# Altium schematic symbol library 28_Pins_Project_V1I1.SchLib: 39 symbols
Pins are listed as number, name and electrical type; pins without a type are passive.

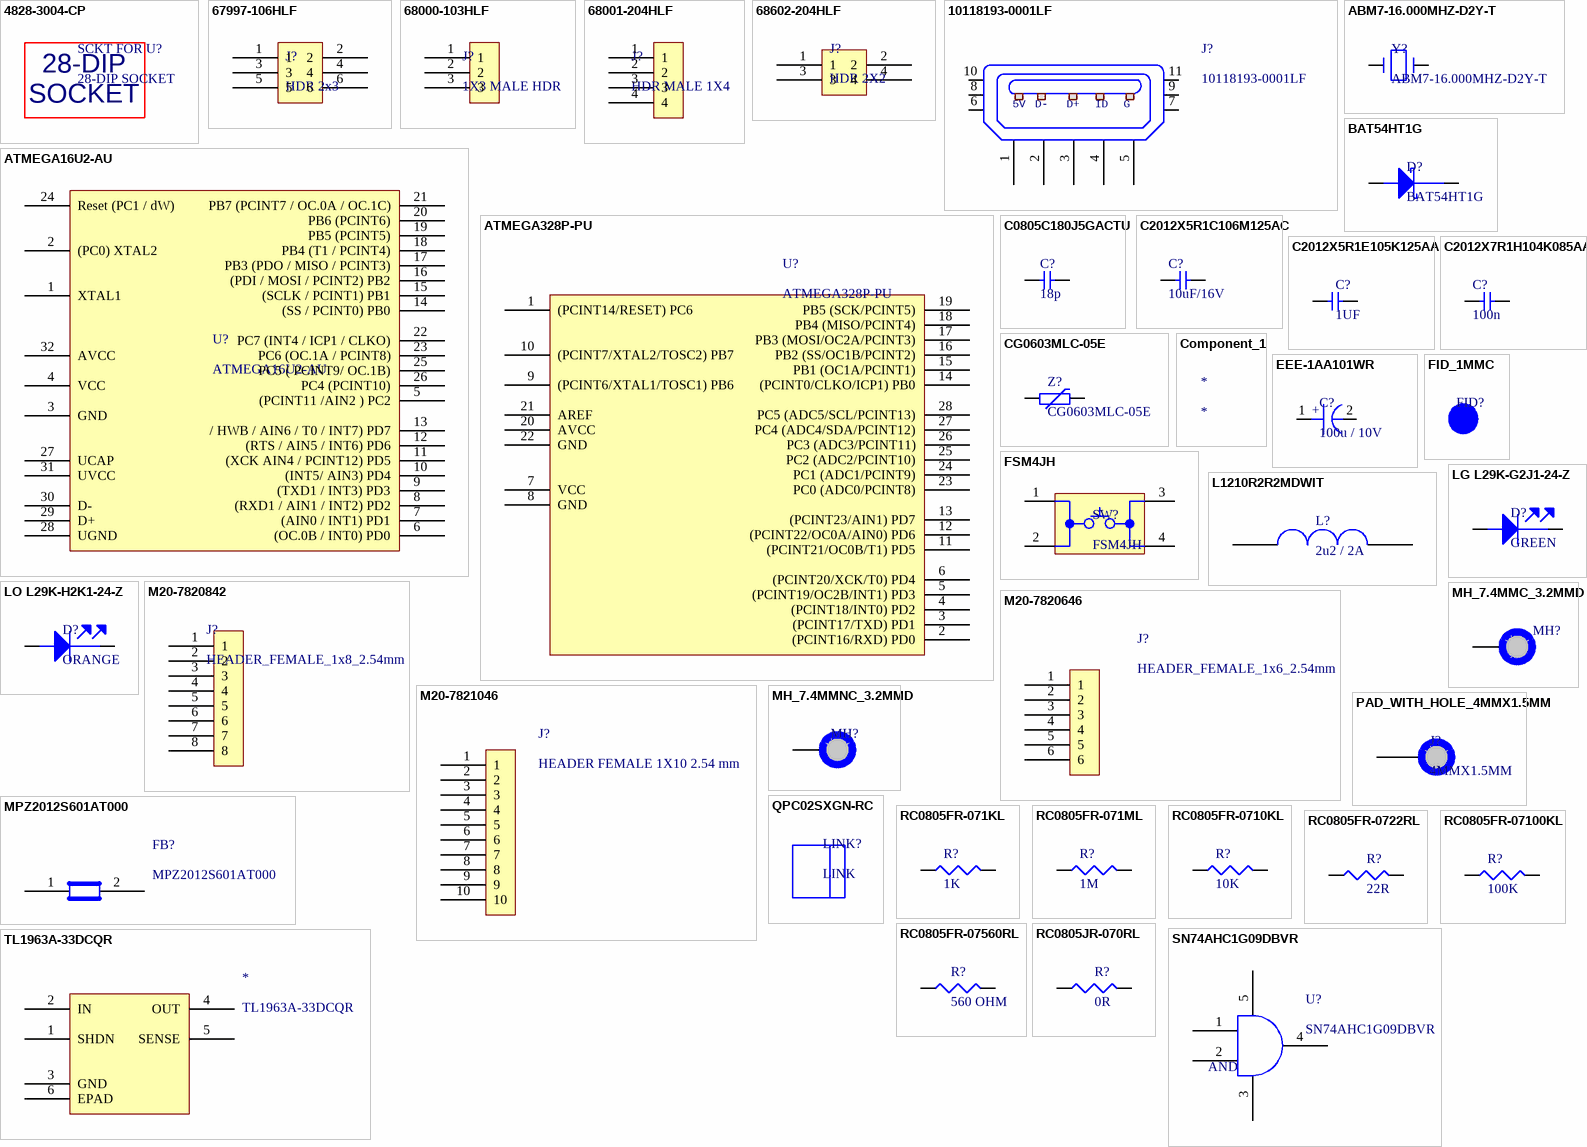
[diagram p0: symbols 4828-3004-CP to TL1963A-33DCQR]

## 4828-3004-CP
designator SCKT FOR U?, comment 28-DIP SOCKET
CONN IC  DIP SOCKET 28POS TIN; Manufacturer: 3M; Manufacturer Part Number: 4828-3004-CP; Supplier 1: Allied; RoHS: No; Stock 1: 1042; Pricing 1: 1=0.5927, 50=0.5711, 100=0.5388, 250=0.5065, 500=0.4634, 1000=0.4095 (USD); ComponentLink1URL: https://www.alliedelec.com/m/d/c6a66f3a2a97a8d8cac78de04d6de5d3.pdf; ComponentLink1Description: https://www.alliedelec.com/m/d/c6a66f3a2a97a8d8cac78de04d6de5d3.pdf; ComponentLink2URL: https://www.alliedelec.com/3m-4828-3004-cp/70237692/; ComponentLink2Description: https://www.alliedelec.com/3m-4828-3004-cp/70237692/; Supplier Part Number 1: 70237692
footprint 28_DIP_7.62MM_SOCKET
text: 28-DIP; SOCKET

## 67997-106HLF
designator J?, comment HDR 2x3
CONN HEADER 6POS .100 STR 30AU; Manufacturer: Amphenol ICC; Manufacturer Part Number: 67997-106HLF; Supplier 1: Allied; RoHS: No; Stock 1: 0; Pricing 1: 800=1.3500 (USD); ComponentLink1URL: https://www.alliedelec.com/m/d/75ed0fe4ed9dd5bdc045f1ca7ef961cc.pdf; ComponentLink1Description: https://www.alliedelec.com/m/d/75ed0fe4ed9dd5bdc045f1ca7ef961cc.pdf; ComponentLink2URL: https://www.alliedelec.com/amphenolicc-67997-106hlf/70302482/; ComponentLink2Description: https://www.alliedelec.com/amphenolicc-67997-106hlf/70302482/; Supplier Part Number 1: 70302482
footprint HDR_2X3_2.54mm
pins: 1, 2, 3, 4, 5, 6

## 68000-103HLF
designator J?, comment 1X3 MALE HDR
HDR MALE 1X3 2.54 MM; Manufacturer: Amphenol ICC; Manufacturer Part Number: 68000-103HLF; Supplier 1: Allied; RoHS: No; Stock 1: 1189; Pricing 1: 1=0.2145, 25=0.2059, 100=0.1887, 250=0.1630, 500=0.1544 (USD); ComponentLink1URL: https://www.alliedelec.com/m/d/db594e6708c9daaed0ce5cfb84ef346f.pdf; ComponentLink1Description: https://www.alliedelec.com/m/d/db594e6708c9daaed0ce5cfb84ef346f.pdf; ComponentLink2URL: https://www.alliedelec.com/amphenolicc-68000-103hlf/70236888/; ComponentLink2Description: https://www.alliedelec.com/amphenolicc-68000-103hlf/70236888/; Supplier Part Number 1: 70236888
footprint HEADER_MALE_1X3_2.54mm
pins: 1, 2, 3

## 68001-204HLF
designator J?, comment HDR MALE 1X4
HDR MALE 1X4 2.54MM; Manufacturer: Amphenol ICC; Manufacturer Part Number: 68001-204HLF; Supplier 1: Allied; RoHS: No; Stock 1: 0; Pricing 1: 12000=0.1787 (USD); ComponentLink1URL: https://www.alliedelec.com/m/d/f5d2b9d9c64cb957e21544e1dea10e7d.pdf; ComponentLink1Description: https://www.alliedelec.com/m/d/f5d2b9d9c64cb957e21544e1dea10e7d.pdf; ComponentLink2URL: https://www.alliedelec.com/amphenolicc-68001-204hlf/70302499/; ComponentLink2Description: https://www.alliedelec.com/amphenolicc-68001-204hlf/70302499/; Supplier Part Number 1: 70302499
footprint HEADER_MALE_1X4_2.54mm
pins: 1, 2, 3, 4

## 68602-204HLF
designator J?, comment HDR 2X2
CONN HEADER 4POS .100 STR 30AU; Manufacturer: Mouser Electronics; Manufacturer Part Number: 68602-204HLF; Get more results: Please configure for MyMouser login credentials; Product Status: New Product; Supplier 1: Mouser; RoHS: RoHS Compliant; Category: Daily Limit Reached; Stock 1: 0; Pricing 1: 1=0.00 (USD); Create Account URL: https://www.mouser.com/MyMouser/CreateAccount.aspx; Login URL: https://www.mouser.com/MyMouser/MouserLogin.aspx; Minimum Order Quantity: 1; Reeling: False; Supplier Part Number 1: 68602-204HLF
footprint HDR_2X2_2.54mm
pins: 1, 2, 3, 4

## 10118193-0001LF
designator J?
CONN USB MICRO B RECPT SMT R/A; Manufacturer: Amphenol ICC; Supplier 1: Allied; Manufacturer Part Number: 10118193-0001LF; RoHS: No; Stock 1: 6740; Pricing 1: 1=0.2919, 25=0.2747, 100=0.2661, 250=0.2318, 500=0.2276 (USD); ComponentLink1URL: https://www.alliedelec.com/m/d/e03afc8e486ea55a2b0205fb8203b916.pdf; ComponentLink1Description: https://www.alliedelec.com/m/d/e03afc8e486ea55a2b0205fb8203b916.pdf; ComponentLink2URL: https://www.alliedelec.com/amphenolicc-10118193-0001lf/70236827/; ComponentLink2Description: https://www.alliedelec.com/amphenolicc-10118193-0001lf/70236827/; Supplier Part Number 1: 70236827
footprint 10118193
pins: 1, 2, 3, 4, 5, 6, 7, 8, 9, 10, 11
text: 5V; D-; D+; ID; G

## ABM7-16.000MHZ-D2Y-T
designator Y?
CRY OSC 16MHZ 16pF; Manufacturer: Abracon; Supplier 1: Allied; Manufacturer Part Number: ABM7-16.000MHZ-D2Y-T; RoHS: No; Stock 1: 0; Pricing 1: 1000=0.5800 (USD); ComponentLink1URL: https://www.alliedelec.com; ComponentLink1Description: https://www.alliedelec.com; ComponentLink2URL: https://www.alliedelec.com/abracon-abm7-16-000mhz-d2y-t/71528095/; ComponentLink2Description: https://www.alliedelec.com/abracon-abm7-16-000mhz-d2y-t/71528095/; Supplier Part Number 1: 71528095
footprint ABM_v1_1_BIG
pins: 1, 2

## ATMEGA16U2-AU
designator U?
Manufacturer: Mouser Electronics; Get more results: Please configure for MyMouser login credentials; Product Status: New Product; Supplier 1: Mouser; Manufacturer Part Number: ATMEGA16U2-AU; RoHS: RoHS Compliant; Category: Daily Limit Reached; Stock 1: 0; Pricing 1: 1=0.00 (USD); Create Account URL: https://www.mouser.com/MyMouser/CreateAccount.aspx; Login URL: https://www.mouser.com/MyMouser/MouserLogin.aspx; Minimum Order Quantity: 1; Reeling: False; Supplier Part Number 1: ATMEGA16U2-AU
footprint TQFP32
pins: 1 XTAL1, 2 (PC0) XTAL2, 3 GND, 4 VCC, 5 (PCINT11 /AIN2 ) PC2, 6 (OC.0B / INT0) PD0, 7 (AIN0 / INT1) PD1, 8 (RXD1 / AIN1 / INT2) PD2, 9 (TXD1 / INT3) PD3, 10 (INT5/ AIN3) PD4, 11 (XCK AIN4 / PCINT12) PD5, 12 (RTS / AIN5 / INT6) PD6, 13 / HWB / AIN6 / T0 / INT7) PD7, 14 (SS / PCINT0) PB0, 15 (SCLK / PCINT1) PB1, 16 (PDI / MOSI / PCINT2) PB2, 17 PB3 (PDO / MISO / PCINT3), 18 PB4 (T1 / PCINT4), 19 PB5 (PCINT5), 20 PB6 (PCINT6), 21 PB7 (PCINT7 / OC.0A / OC.1C), 22 PC7 (INT4 / ICP1 / CLKO), 23 PC6 (OC.1A / PCINT8), 24 Reset (PC1 / dW), 25 PC5 ( PCINT9/ OC.1B), 26 PC4 (PCINT10), 27 UCAP, 28 UGND, 29 D+, 30 D-, 31 UVCC, 32 AVCC

## ATMEGA328P-PU
designator U?
ATMEGA328P-PU; 8 bit Microcontroller AVR 20MHz 1; 32kb Flash; 2kb RAM; I2C SPI 2; Manufacturer: Microchip Technology Inc.; Supplier 1: Allied; RoHS: No; Stock 1: 0; Pricing 1: 1=5.1200, 5=4.6100, 10=4.1800, 25=3.8300, 100=3.5500 (USD); ComponentLink1URL: https://www.alliedelec.com/m/d/768ce6a229d36838fb8bd4dcb29bd26e.pdf; ComponentLink1Description: https://www.alliedelec.com/m/d/768ce6a229d36838fb8bd4dcb29bd26e.pdf; ComponentLink2URL: https://www.alliedelec.com/microchiptechnologyinc-atmega328p-pu/70332157/; ComponentLink2Description: https://www.alliedelec.com/microchiptechnologyinc-atmega328p-pu/70332157/; Supplier Part Number 1: 70332157; Manufacturer Part Number: ATMEGA328P-PU
footprint 28_DIP_7.62mm
pins: 1 (PCINT14/RESET) PC6, 2 (PCINT16/RXD) PD0, 3 (PCINT17/TXD) PD1, 4 (PCINT18/INT0) PD2, 5 (PCINT19/OC2B/INT1) PD3, 6 (PCINT20/XCK/T0) PD4, 7 VCC, 8 GND, 9 (PCINT6/XTAL1/TOSC1) PB6, 10 (PCINT7/XTAL2/TOSC2) PB7, 11 (PCINT21/OC0B/T1) PD5, 12 (PCINT22/OC0A/AIN0) PD6, 13 (PCINT23/AIN1) PD7, 14 (PCINT0/CLKO/ICP1) PB0, 15 PB1 (OC1A/PCINT1), 16 PB2 (SS/OC1B/PCINT2), 17 PB3 (MOSI/OC2A/PCINT3), 18 PB4 (MISO/PCINT4), 19 PB5 (SCK/PCINT5), 20 AVCC, 21 AREF, 22 GND, 23 PC0 (ADC0/PCINT8), 24 PC1 (ADC1/PCINT9), 25 PC2 (ADC2/PCINT10), 26 PC3 (ADC3/PCINT11), 27 PC4 (ADC4/SDA/PCINT12), 28 PC5 (ADC5/SCL/PCINT13)

## BAT54HT1G
designator D?
DIODE SCHOTTKY 30V 200MA SOD323; Manufacturer: ON Semiconductor; Supplier 1: Allied; Manufacturer Part Number: BAT54HT1G; RoHS: No; Stock 1: 1580; Pricing 1: 10=0.0946, 100=0.0936, 250=0.0927 (USD); ComponentLink1URL: https://www.alliedelec.com/m/d/32ed7fc37a0b4f97ae8b34bd526f7e4f.pdf; ComponentLink1Description: https://www.alliedelec.com/m/d/32ed7fc37a0b4f97ae8b34bd526f7e4f.pdf; ComponentLink2URL: https://www.alliedelec.com/onsemiconductor-bat54ht1g/70099482/; ComponentLink2Description: https://www.alliedelec.com/onsemiconductor-bat54ht1g/70099482/; Supplier Part Number 1: 70099482
footprint SOD323
pins: 1 Cathode, 2 Anode

## C0805C180J5GACTU
designator C?, comment 18p
CAP CER 18PF 50V NP0 0805; Manufacturer: KEMET; Manufacturer Part Number: C0805C180J5GACTU; Supplier 1: Allied; RoHS: No; Stock 1: 9520; Pricing 1: 10=0.0200 (USD); ComponentLink1URL: https://www.alliedelec.com/m/d/50b0791ef9828d4ace226f67180d8c1a.pdf; ComponentLink1Description: https://www.alliedelec.com/m/d/50b0791ef9828d4ace226f67180d8c1a.pdf; ComponentLink2URL: https://www.alliedelec.com/kemet-c0805c180j5gactu/70095583/; ComponentLink2Description: https://www.alliedelec.com/kemet-c0805c180j5gactu/70095583/; Supplier Part Number 1: 70095583
footprint C0805
pins: 1, 2

## C2012X5R1C106M125AC
designator C?, comment 10uF/16V
CAP CER 10UF 16V X5R 0805; Manufacturer: Mouser Electronics; Manufacturer Part Number: C2012X5R1C106M125AC; Get more results: Please configure for MyMouser login credentials; Product Status: New Product; Supplier 1: Mouser; RoHS: RoHS Compliant; Category: Daily Limit Reached; Stock 1: 0; Pricing 1: 1=0.00 (USD); Create Account URL: https://www.mouser.com/MyMouser/CreateAccount.aspx; Login URL: https://www.mouser.com/MyMouser/MouserLogin.aspx; Minimum Order Quantity: 1; Reeling: False; Supplier Part Number 1: C2012X5R1C106M125AC
footprint C0805_v2
pins: 1, 2

## C2012X5R1E105K125AA
designator C?, comment 1UF
CAP CER 10UF 16V X5R 0805; Manufacturer: Mouser Electronics; Manufacturer Part Number: C2012X5R1E105K125AA; Get more results: Please configure for MyMouser login credentials; Product Status: New Product; Supplier 1: Mouser; RoHS: RoHS Compliant; Category: Daily Limit Reached; Stock 1: 0; Pricing 1: 1=0.00 (USD); Create Account URL: https://www.mouser.com/MyMouser/CreateAccount.aspx; Login URL: https://www.mouser.com/MyMouser/MouserLogin.aspx; Minimum Order Quantity: 1; Reeling: False; Supplier Part Number 1: Anonymous Daily Limit Reached
footprint C0805
pins: 1, 2

## C2012X7R1H104K085AA
designator C?, comment 100n
CAP CER 0.1UF 50V X7R 0805; Manufacturer: Mouser Electronics; Manufacturer Part Number: C2012X7R1H104K085AA; Get more results: Please configure for MyMouser login credentials; Product Status: New Product; Supplier 1: Mouser; RoHS: RoHS Compliant; Category: Daily Limit Reached; Stock 1: 0; Pricing 1: 1=0.00 (USD); Create Account URL: https://www.mouser.com/MyMouser/CreateAccount.aspx; Login URL: https://www.mouser.com/MyMouser/MouserLogin.aspx; Minimum Order Quantity: 1; Reeling: False; Supplier Part Number 1: C2012X7R1H104K085AA
footprint C0805
pins: 1, 2

## CG0603MLC-05E
designator Z?
VARISTOR 0603; Manufacturer: Bourns; Supplier 1: Allied; Manufacturer Part Number: CG0603MLC-05E; RoHS: No; Stock 1: 7999; Pricing 1: 1=0.1100, 1250=0.1067, 2500=0.1012, 12500=0.0946, 25000=0.0869, 125000=0.0682 (USD); ComponentLink1URL: https://www.alliedelec.com/m/d/c74d21cd372fe06fa9c5b8b4ec8a7246.pdf; ComponentLink1Description: https://www.alliedelec.com/m/d/c74d21cd372fe06fa9c5b8b4ec8a7246.pdf; ComponentLink2URL: https://www.alliedelec.com/bourns-cg0603mlc-05e/70153503/; ComponentLink2Description: https://www.alliedelec.com/bourns-cg0603mlc-05e/70153503/; Supplier Part Number 1: 70153503
footprint R0603
pins: 1, 2

## Component_1
designator *

## EEE-1AA101WR
designator C?, comment 100u / 10V
CAP ALUM 100UF 20% 10V SMD; Manufacturer: Panasonic; Manufacturer Part Number: EEE-1AA101WR; Supplier 1: Allied; RoHS: No; Stock 1: 0; Pricing 1: 3000=0.1540, 6000=0.1514, 15000=0.1466, 30000=0.1400, 75000=0.1305, 150000=0.1202, 300000=0.1078 (USD); ComponentLink1URL: https://www.alliedelec.com/m/d/310b2cfd0553a89b5ffae819c6e32d0a.pdf; ComponentLink1Description: https://www.alliedelec.com/m/d/310b2cfd0553a89b5ffae819c6e32d0a.pdf; ComponentLink2URL: https://www.alliedelec.com/panasonic-eee-1aa101wr/70256240/; ComponentLink2Description: https://www.alliedelec.com/panasonic-eee-1aa101wr/70256240/; Supplier Part Number 1: 70256240
footprint C_ALU_C_SIZE
pins: 1, 2
text: +

## FID_1MMC
designator FID?, comment FID 1MM  (value not drawn)  (no BOM)
FIDUCIAL 40MIL DIAMETER,120 MIL MASK
footprint FID_40X120D

## FSM4JH
designator SW?
SWITCH; Manufacturer: TE Connectivity; Supplier 1: Allied; Manufacturer Part Number: FSM4JH; RoHS: No; Stock 1: 0; Pricing 1: 750=0.1046 (USD); ComponentLink1URL: https://www.alliedelec.com/m/d/eaa16fe89a3a8acf140f751379b52364.pdf; ComponentLink1Description: https://www.alliedelec.com/m/d/eaa16fe89a3a8acf140f751379b52364.pdf; ComponentLink2URL: https://www.alliedelec.com/te-connectivity-fsm4jh/70156212/; ComponentLink2Description: https://www.alliedelec.com/te-connectivity-fsm4jh/70156212/; Supplier Part Number 1: 70156212
footprint FSM4JH
pins: 1, 2, 3, 4

## L1210R2R2MDWIT
designator L?, comment 2u2 / 2A
FIXED IND 2.2UH 2A 80MOHM SMD; Manufacturer: Mouser Electronics; Manufacturer Part Number: L1210R2R2MDWIT; Get more results: Please configure for MyMouser login credentials; Product Status: New Product; Supplier 1: Mouser; RoHS: RoHS Compliant; Category: Daily Limit Reached; Stock 1: 0; Pricing 1: 1=0.00 (USD); Create Account URL: https://www.mouser.com/MyMouser/CreateAccount.aspx; Login URL: https://www.mouser.com/MyMouser/MouserLogin.aspx; Minimum Order Quantity: 1; Reeling: False; Supplier Part Number 1: Anonymous Daily Limit Reached
footprint C1210_IND
pins: 3, 4

## LG L29K-G2J1-24-Z
designator D?, comment GREEN
LED GREEN DIFFUSED 0603 SMD; Manufacturer: Osram Opto Semiconductors; Manufacturer Part Number: LG L29K-G2J1-24-Z; Supplier 1: Allied; RoHS: No; Stock 1: 32107; Pricing 1: 1=0.0505 (USD); ComponentLink1URL: https://www.alliedelec.com/m/d/d19aa5c5274efe304f2af274a0ac8334.pdf; ComponentLink1Description: https://www.alliedelec.com/m/d/d19aa5c5274efe304f2af274a0ac8334.pdf; ComponentLink2URL: https://www.alliedelec.com/osram-opto-semiconductors-lg-r971/70338572/; ComponentLink2Description: https://www.alliedelec.com/osram-opto-semiconductors-lg-r971/70338572/; Supplier Part Number 1: 70338572
footprint LED_0603
pins: 1 Cathode, 2 Anode

## LO L29K-H2K1-24-Z
designator D?, comment ORANGE
LED ORANGE DIFFUSED 0603 SMD; Manufacturer: Carling Technologies; Manufacturer Part Number: LO L29K-H2K1-24-Z; Supplier 1: Allied; RoHS: No; Stock 1: 0; Pricing 1: 25=3.0900 (USD); ComponentLink2URL: https://www.alliedelec.com/carling-technologies-lra911-cr-b-250n-hi-lo/71572183/; ComponentLink2Description: https://www.alliedelec.com/carling-technologies-lra911-cr-b-250n-hi-lo/71572183/; Supplier Part Number 1: 71572183
footprint LED_0603
pins: 1 Cathode, 2 Anode

## M20-7820646
designator J?, comment HEADER_FEMALE_1x6_2.54mm
HARWIN 2.54mm 6 Way 1 Row Straight PCBSocket Through Hole Socket Strip; Manufacturer: Mouser Electronics; Manufacturer Part Number: M20-7820646; Get more results: Please configure for MyMouser login credentials; Product Status: New Product; Supplier 1: Mouser; RoHS: RoHS Compliant; Category: Daily Limit Reached; Stock 1: 0; Pricing 1: 1=0.00 (USD); Create Account URL: https://www.mouser.com/MyMouser/CreateAccount.aspx; Login URL: https://www.mouser.com/MyMouser/MouserLogin.aspx; Minimum Order Quantity: 1; Reeling: False; Supplier Part Number 1: M20-7820646
footprint HEADER_FEMALE_1X6_2.54mm
pins: 1, 2, 3, 4, 5, 6

## M20-7820842
designator J?, comment HEADER_FEMALE_1x8_2.54mm
HARWIN 2.54mm 8 Way 1 Row Straight PCBSocket Through Hole Socket Strip; Manufacturer: Mouser Electronics; Manufacturer Part Number: M20-7820842; Get more results: Please configure for MyMouser login credentials; Product Status: New Product; Supplier 1: Mouser; RoHS: RoHS Compliant; Category: Daily Limit Reached; Stock 1: 0; Pricing 1: 1=0.00 (USD); Create Account URL: https://www.mouser.com/MyMouser/CreateAccount.aspx; Login URL: https://www.mouser.com/MyMouser/MouserLogin.aspx; Minimum Order Quantity: 1; Reeling: False; Supplier Part Number 1: M20-7820842
footprint HEADER_FEMALE_1X8_2.54mm
pins: 1, 2, 3, 4, 5, 6, 7, 8

## M20-7821046
designator J?, comment HEADER FEMALE 1X10 2.54 mm
HARWIN 2.54mm 10 Way 1 Row Straight PCBSocket Through Hole Socket Strip; Manufacturer Part Number: M20-7821046; Supplier 1: Allied; RoHS: No; Stock 1: 1500; Pricing 1: 1=1.9400 (USD); ComponentLink1URL: https://www.alliedelec.com/m/d/01be0311a6eb419d8543d8d568eced2e.pdf; ComponentLink1Description: https://www.alliedelec.com/m/d/01be0311a6eb419d8543d8d568eced2e.pdf; ComponentLink2URL: https://www.alliedelec.com/-m20-7821046/70323442/; ComponentLink2Description: https://www.alliedelec.com/-m20-7821046/70323442/; Supplier Part Number 1: 70323442
footprint HEADER_FEMALE_1X10_2.54mm
pins: 1, 2, 3, 4, 5, 6, 7, 8, 9, 10

## MH_7.4MMC_3.2MMD
designator MH?  (value not drawn)  (no BOM)
MOUNTING HOLE 7.4MM DIAMETER,3.2MM DRILL
footprint MH_7.4MMC_3.2MMD
pins: 1

## MH_7.4MMNC_3.2MMD
designator MH?  (value not drawn)  (no BOM)
HOLE 7.4MM DIAMETER (NON COPPER), 3.2MM DRILL NPTH
footprint MH_7.4MMNC_3.2MMD_NON_COPPER_NPTH
pins: 1

## MPZ2012S601AT000
designator FB?
FERRITE CHIP BEAD  600 OHM SMD; Manufacturer: Mouser Electronics; Get more results: Please configure for MyMouser login credentials; Product Status: New Product; Supplier 1: Mouser; Manufacturer Part Number: MPZ2012S601AT000; RoHS: RoHS Compliant; Category: Daily Limit Reached; Stock 1: 0; Pricing 1: 1=0.00 (USD); Create Account URL: https://www.mouser.com/MyMouser/CreateAccount.aspx; Login URL: https://www.mouser.com/MyMouser/MouserLogin.aspx; Minimum Order Quantity: 1; Reeling: False; Supplier Part Number 1: Anonymous Daily Limit Reached
footprint C0805
pins: 1, 2

## PAD_WITH_HOLE_4MMX1.5MM
designator J?, comment 4MMX1.5MM  (no BOM)
PAD WITH A HOLE
footprint PAD_WTIH_HOLE_4MMX1.5MM
pins: 1

## QPC02SXGN-RC
designator LINK?, comment LINK  (mechanical)
QPC02SXGN-RC; Manufacturer: Mouser Electronics; Get more results: Please configure for MyMouser login credentials; Product Status: New Product; Supplier 1: Mouser; Manufacturer Part Number: QPC02SXGN-RC; RoHS: RoHS Compliant; Category: Daily Limit Reached; Stock 1: 0; Pricing 1: 1=0.00 (USD); Create Account URL: https://www.mouser.com/MyMouser/CreateAccount.aspx; Login URL: https://www.mouser.com/MyMouser/MouserLogin.aspx; Minimum Order Quantity: 1; Reeling: False; Supplier Part Number 1: Anonymous Daily Limit Reached

## RC0805FR-071KL
designator R?, comment 1K
RES SMD 1K OHM 1% 1/8W 0805; Manufacturer: Mouser Electronics; Manufacturer Part Number: RC0805FR-071KL; Get more results: Please configure for MyMouser login credentials; Product Status: New Product; Supplier 1: Mouser; RoHS: RoHS Compliant; Category: Daily Limit Reached; Stock 1: 0; Pricing 1: 1=0.00 (USD); Create Account URL: https://www.mouser.com/MyMouser/CreateAccount.aspx; Login URL: https://www.mouser.com/MyMouser/MouserLogin.aspx; Minimum Order Quantity: 1; Reeling: False; Supplier Part Number 1: RC0805FR-071KL
footprint R0805
pins: 1, 2 1

## RC0805FR-071ML
designator R?, comment 1M
RES SMD 1M OHM 1% 1/8W 0805; Manufacturer: Mouser Electronics; Manufacturer Part Number: RC0805FR-071ML; Get more results: Please configure for MyMouser login credentials; Product Status: New Product; Supplier 1: Mouser; RoHS: RoHS Compliant; Category: Daily Limit Reached; Stock 1: 0; Pricing 1: 1=0.00 (USD); Create Account URL: https://www.mouser.com/MyMouser/CreateAccount.aspx; Login URL: https://www.mouser.com/MyMouser/MouserLogin.aspx; Minimum Order Quantity: 1; Reeling: False; Supplier Part Number 1: RC0805FR-071ML
footprint R0805
pins: 1, 2 1

## RC0805FR-0710KL
designator R?, comment 10K
RES SMD 10K OHM 1/8 W 0805; Manufacturer: Mouser Electronics; Manufacturer Part Number: RC0805FR-0710KL; Get more results: Please configure for MyMouser login credentials; Product Status: New Product; Supplier 1: Mouser; RoHS: RoHS Compliant; Category: Daily Limit Reached; Stock 1: 0; Pricing 1: 1=0.00 (USD); Create Account URL: https://www.mouser.com/MyMouser/CreateAccount.aspx; Login URL: https://www.mouser.com/MyMouser/MouserLogin.aspx; Minimum Order Quantity: 1; Reeling: False; Supplier Part Number 1: RC0805FR-0710KL
footprint R0805
pins: 1, 2 1

## RC0805FR-0722RL
designator R?, comment 22R
RES SMD 22 OHM 1% 1/8W 0805; Manufacturer: Mouser Electronics; Manufacturer Part Number: RC0805FR-0722RL; Get more results: Please configure for MyMouser login credentials; Product Status: New Product; Supplier 1: Mouser; RoHS: RoHS Compliant; Category: Daily Limit Reached; Stock 1: 0; Pricing 1: 1=0.00 (USD); Create Account URL: https://www.mouser.com/MyMouser/CreateAccount.aspx; Login URL: https://www.mouser.com/MyMouser/MouserLogin.aspx; Minimum Order Quantity: 1; Reeling: False; Supplier Part Number 1: RC0805FR-0722RL
footprint R0805
pins: 2 1, 2 1

## RC0805FR-07100KL
designator R?, comment 100K
RES SMD 100K OHM 1% 1/8W 0805; Manufacturer: Mouser Electronics; Manufacturer Part Number: RC0805FR-07100KL; Get more results: Please configure for MyMouser login credentials; Product Status: New Product; Supplier 1: Mouser; RoHS: RoHS Compliant; Category: Daily Limit Reached; Stock 1: 0; Pricing 1: 1=0.00 (USD); Create Account URL: https://www.mouser.com/MyMouser/CreateAccount.aspx; Login URL: https://www.mouser.com/MyMouser/MouserLogin.aspx; Minimum Order Quantity: 1; Reeling: False; Supplier Part Number 1: Anonymous Daily Limit Reached
footprint R0805
pins: 1, 2 1

## RC0805FR-07560RL
designator R?, comment 560 OHM
RES SMD 560 OHM 1% 1/8W 0805; Manufacturer: Mouser Electronics; Manufacturer Part Number: RC0805FR-07560RL; Get more results: Please configure for MyMouser login credentials; Product Status: New Product; Supplier 1: Mouser; RoHS: RoHS Compliant; Category: Daily Limit Reached; Stock 1: 0; Pricing 1: 1=0.00 (USD); Create Account URL: https://www.mouser.com/MyMouser/CreateAccount.aspx; Login URL: https://www.mouser.com/MyMouser/MouserLogin.aspx; Minimum Order Quantity: 1; Reeling: False; Supplier Part Number 1: Anonymous Daily Limit Reached
footprint R0805
pins: 1, 2 1

## RC0805JR-070RL
designator R?, comment 0R
RES SMD 0 OHM 1% 1/8W 0805; Manufacturer: Mouser Electronics; Manufacturer Part Number: RC0805JR-070RL; Get more results: Please configure for MyMouser login credentials; Product Status: New Product; Supplier 1: Mouser; RoHS: RoHS Compliant; Category: Daily Limit Reached; Stock 1: 0; Pricing 1: 1=0.00 (USD); Create Account URL: https://www.mouser.com/MyMouser/CreateAccount.aspx; Login URL: https://www.mouser.com/MyMouser/MouserLogin.aspx; Minimum Order Quantity: 1; Reeling: False; Supplier Part Number 1: Anonymous Daily Limit Reached
footprint R0805
pins: 2 1, 2 1

## SN74AHC1G09DBVR
designator U?
IC GATE AND 1 CH 2-INP SOT-23-5; Manufacturer: Mouser Electronics; Get more results: Please configure for MyMouser login credentials; Product Status: New Product; Supplier 1: Mouser; Manufacturer Part Number: SN74AHC1G09DBVR; RoHS: RoHS Compliant; Category: Daily Limit Reached; Stock 1: 0; Pricing 1: 1=0.00 (USD); Create Account URL: https://www.mouser.com/MyMouser/CreateAccount.aspx; Login URL: https://www.mouser.com/MyMouser/MouserLogin.aspx; Minimum Order Quantity: 1; Reeling: False; Supplier Part Number 1: SN74AHC1G09DBVR
footprint DBV_SOT_23_5
pins: 1, 2, 3, 4, 5
text: AND

## TL1963A-33DCQR
designator *
IC REG LDO 3.3V 1.5A SOT223-6; Manufacturer: Mouser Electronics; Get more results: Please configure for MyMouser login credentials; Product Status: New Product; Supplier 1: Mouser; Manufacturer Part Number: TL1963A-33DCQR; RoHS: RoHS Compliant; Category: Daily Limit Reached; Stock 1: 0; Pricing 1: 1=0.00 (USD); Create Account URL: https://www.mouser.com/MyMouser/CreateAccount.aspx; Login URL: https://www.mouser.com/MyMouser/MouserLogin.aspx; Minimum Order Quantity: 1; Reeling: False; Supplier Part Number 1: TL1963A-33DCQR
footprint DCQ (R-PDSO-G6)
pins: 1 SHDN, 2 IN, 3 GND, 4 OUT, 5 SENSE, 6 EPAD